# Altium schematic symbol library LM317A.SchLib: 1 symbol
Pins are listed as number, name and electrical type; pins without a type are passive.

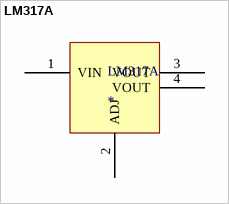
[diagram p0: symbol LM317A]

## LM317A
designator LM317A
pins: 1 VIN, 2 ADJ, 3 VOUT, 4 VOUT